# Altium schematic symbol library SCH - PASSIVES - CAPACITOR_POLARIZED.SCHLIB: 1 symbol
Pins are listed as number, name and electrical type; pins without a type are passive.

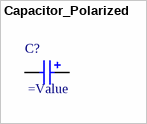
[diagram p0: symbol Capacitor_Polarized]

## Capacitor_Polarized
designator C?
WCAP-PSHP Aluminum Polymer Capacitors, D8mm x L7.7mm, 220 uF, 16 VDC
pins: 1 P, 2 N